# Altium schematic symbol library STMPS21x1.SchLib: 1 symbol
Pins are listed as number, name and electrical type; pins without a type are passive.

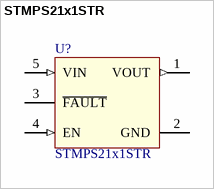
[diagram p0: symbol STMPS21x1STR]

## STMPS21x1STR
designator U?
value: STMPS21x1STR
footprint DBV005_N (SOT23, 5-Leads, Body 2.9x1.6mm, Pitch 0.95mm, Lead Span 2.8mm, IPC Medium Density)
pins: 1 VOUT (out), 2 GND (power), 3 ~{FAULT} (oc), 4 EN (in), 5 VIN (in)